# Altium integrated library SKY65111.IntLib: 1 symbol
Pins are listed as number, name and electrical type; pins without a type are passive.

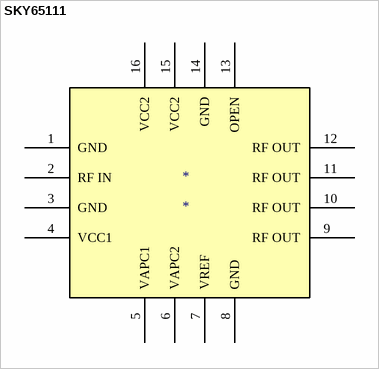
[diagram p0: symbol SKY65111]

## SKY65111
designator *
footprint SKY65111
pins: 1 GND, 2 RF IN, 3 GND, 4 VCC1, 5 VAPC1, 6 VAPC2, 7 VREF, 8 GND, 9 RF OUT, 10 RF OUT, 11 RF OUT, 12 RF OUT, 13 OPEN, 14 GND, 15 VCC2, 16 VCC2, 17 GND